# EAGLE library part HT1632C (library MyParts)
The HT1632C is a memory mapping LED display controller/ driver, which can select a number of ROW and commons. These are 32 ROW & 8 commons and 24 ROW & 16 commons. The device supports 16-gradation LEDs for each out line usingPWMcontrol with software instructions. A serial interface is conveniently provided for the command mode and data mode. Only three or four lines are required for the interface between the host controller and the HT1632C. The display can be extended by cascading the HT1632C for wider applications.
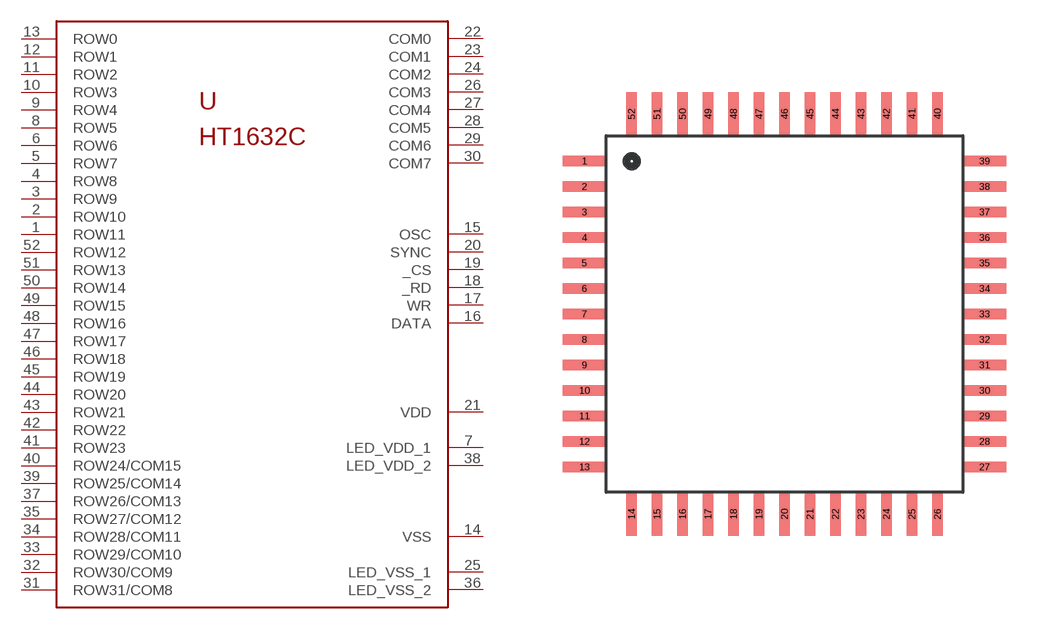
[diagram p24: symbol with the pads of QFP52; footprint QFP52]

Designator prefix -

## HT1632C  [QFP52]
1  ROW11  out
2  ROW10  out
3  ROW9  out
4  ROW8  out
5  ROW7  out
6  ROW6  out
7  LED_VDD_1  in
8  ROW5  out
9  ROW4  out
10  ROW3  out
11  ROW2  out
12  ROW1  out
13  ROW0  out
14  VSS  in
15  OSC
16  DATA
17  WR  in
18  _RD  in
19  _CS  in
20  SYNC
21  VDD  in
22  COM0  out
23  COM1  out
24  COM2  out
25  LED_VSS_1  in
26  COM3  out
27  COM4  out
28  COM5  out
29  COM6  out
30  COM7  out
31  ROW31/COM8  out
32  ROW30/COM9  out
33  ROW29/COM10  out
34  ROW28/COM11  out
35  ROW27/COM12  out
36  LED_VSS_2  in
37  ROW26/COM13  out
38  LED_VDD_2  in
39  ROW25/COM14  out
40  ROW24/COM15  out
41  ROW23  out
42  ROW22  out
43  ROW21  out
44  ROW20  out
45  ROW19  out
46  ROW18  out
47  ROW17  out
48  ROW16  out
49  ROW15  out
50  ROW14  out
51  ROW13  out
52  ROW12  out

## Footprint QFP52 (pad centres in mm)
smd 1.7 x 0.4: 1 -7.85,6; 2 -7.85,5; 3 -7.85,4; 4 -7.85,3; 5 -7.85,2; 6 -7.85,1; 7 -7.85,0; 8 -7.85,-1; 9 -7.85,-2; 10 -7.85,-3; 11 -7.85,-4; 12 -7.85,-5; 13 -7.85,-6; 27 7.85,-6; 28 7.85,-5; 29 7.85,-4; 30 7.85,-3; 31 7.85,-2; 32 7.85,-1; 33 7.85,0; 34 7.85,1; 35 7.85,2; 36 7.85,3; 37 7.85,4; 38 7.85,5; 39 7.85,6
smd 0.4 x 1.7: 14 -6,-7.85; 15 -5,-7.85; 16 -4,-7.85; 17 -3,-7.85; 18 -2,-7.85; 19 -1,-7.85; 20 0,-7.85; 21 1,-7.85; 22 2,-7.85; 23 3,-7.85; 24 4,-7.85; 25 5,-7.85; 26 6,-7.85; 40 6,7.85; 41 5,7.85; 42 4,7.85; 43 3,7.85; 44 2,7.85; 45 1,7.85; 46 0,7.85; 47 -1,7.85; 48 -2,7.85; 49 -3,7.85; 50 -4,7.85; 51 -5,7.85; 52 -6,7.85